# Altium schematic symbol library TESTPOINT-ARROW.SchLib: 5 symbols
Pins are listed as number, name and electrical type; pins without a type are passive.

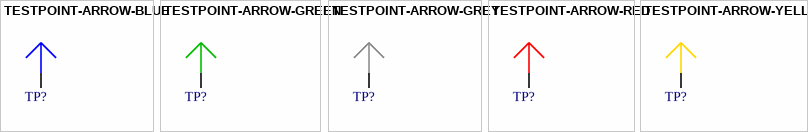
[diagram p0: symbols TESTPOINT-ARROW-BLUE to TESTPOINT-ARROW-YELLOW]

## TESTPOINT-ARROW-BLUE
designator TP?
pins: 1

## TESTPOINT-ARROW-GREEN
designator TP?
pins: 1

## TESTPOINT-ARROW-GREY
designator TP?
pins: 1

## TESTPOINT-ARROW-RED
designator TP?
pins: 1

## TESTPOINT-ARROW-YELLOW
designator TP?
pins: 1